# EAGLE library part SCREWTERMINAL-3.5MM-9 (library libredaq-comps)
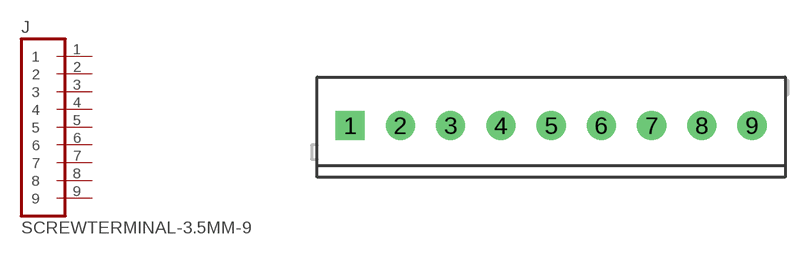
[diagram p3: symbol with the pads of SCREWTERMINAL-3.5MM-9; footprint SCREWTERMINAL-3.5MM-9]

Designator prefix J

## SCREWTERMINAL-3.5MM-9  [SCREWTERMINAL-3.5MM-9]
1  1
2  2
3  3
4  4
5  5
6  6
7  7
8  8
9  9

## Footprint SCREWTERMINAL-3.5MM-9 (pad centres in mm)
drill 1.2 pad 2.032 square: 1 0,0
drill 1.2 pad 2.032: 2 3.5,0; 3 7,0; 4 10.5,0; 5 14,0; 6 17.5,0; 7 21,0; 8 24.5,0; 9 28,0